# Altium schematic symbol library Capacitor.SchLib: 4 symbols
Pins are listed as number, name and electrical type; pins without a type are passive.

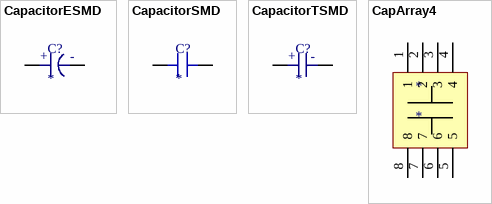
[diagram p0: symbols CapacitorESMD to CapArray4]

## CapacitorESMD
designator C?
Electrolitic Capacitor
footprint CAPACITORE0805
footprint CAPACITORE1206
footprint RadialSMD6.3 (SMD Type Radial)
footprint RADIALSMD4.0
pins: 1, 2
text: +; -

## CapacitorSMD
designator C?
Ceramic Capacitor
footprint Capacitor1206
footprint Capacitor0805
pins: 1, 2

## CapacitorTSMD
designator C?
Tantalum Capacitor; Digi-Key PArt Number: *
footprint CAPACITORT1210 (Tantalum Capacitor 1210)
pins: 1, 2
text: +; -

## CapArray4
designator *
Capacitor Network, 4 Isolated
footprint C_array
pins: 1, 2, 3, 4, 5, 6, 7, 8